# Altium schematic symbol library SCH - FUSE - MINIASMDC110F_24-2.Schlib: 1 symbol
Pins are listed as number, name and electrical type; pins without a type are passive.

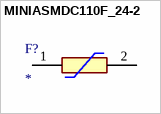
[diagram p0: symbol MINIASMDC110F_24-2]

## MINIASMDC110F_24-2
designator F?
Resettable Fuse; Manufacturer_Name: LITTELFUSE; Manufacturer_Part_Number: MINIASMDC110F/24-2; Datasheet Link: https://www.littelfuse.com/~/media/electronics/datasheets/resettable_ptcs/littelfuse_ptc_miniasmdc_datasheet.pdf.pdf; Height: 0.89mm; Mouser Part Number: 650-MINIASMDC110F/24; Mouser Price/Stock: https://www.mouser.com/Search/Refine.aspx?Keyword=650-MINIASMDC110F%2F24; Arrow Part Number: MINIASMDC110F/24-2; Arrow Price/Stock: https://www.arrow.com/en/products/miniasmdc110f24-2/littelfuse
pins: 1, 2